# Altium schematic symbol library Generic Module.SchLib: 8 symbols
Pins are listed as number, name and electrical type; pins without a type are passive.

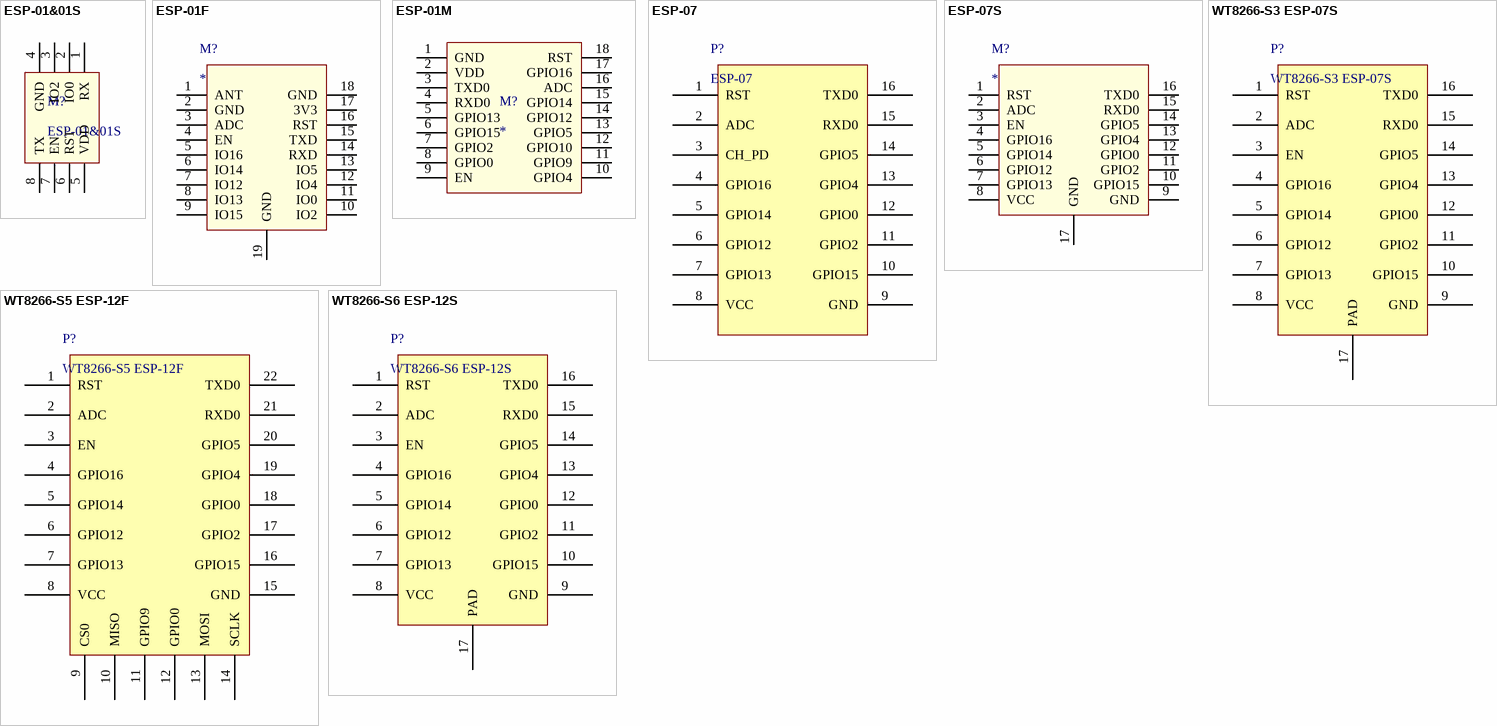
[diagram p0: symbols ESP-01&01S to WT8266-S6 ESP-12S]

## ESP-01&01S
designator M?
Module
footprint ESP-01&01S Module
pins: 1 RX, 2 IO0, 3 IO2, 4 GND, 5 VDD, 6 RST, 7 EN, 8 TX

## ESP-01F
designator M?
footprint Esp-01F
pins: 1 ANT, 2 GND, 3 ADC, 4 EN, 5 IO16, 6 IO14, 7 IO12, 8 IO13, 9 IO15, 10 IO2, 11 IO0, 12 IO4, 13 IO5, 14 RXD, 15 TXD, 16 RST, 17 3V3, 18 GND, 19 GND

## ESP-01M
designator M?
footprint ESP-01M
pins: 1 GND, 2 VDD, 3 TXD0, 4 RXD0, 5 GPIO13, 6 GPIO15, 7 GPIO2, 8 GPIO0, 9 EN, 10 GPIO4, 11 GPIO9, 12 GPIO10, 13 GPIO5, 14 GPIO12, 15 GPIO14, 16 ADC, 17 GPIO16, 18 RST

## ESP-07
designator P?
Module; Manufacturer: Ai-Thinker; Price/1K: 13.84; PartNumber: ESP-07; Sku: C82894; SupplierContact: https://item.szlcsc.com/84055.html; Datasheet: https://atta.szlcsc.com/upload/public/pdf/source/20170405/1491356466633.pdf
footprint ESP8266-07
pins: 1 RST, 2 ADC, 3 CH_PD, 4 GPIO16, 5 GPIO14, 6 GPIO12, 7 GPIO13, 8 VCC, 9 GND, 10 GPIO15, 11 GPIO2, 12 GPIO0, 13 GPIO4, 14 GPIO5, 15 RXD0, 16 TXD0

## ESP-07S
designator M?
Module
footprint ESP8266-07S
pins: 1 RST, 2 ADC, 3 EN, 4 GPIO16, 5 GPIO14, 6 GPIO12, 7 GPIO13, 8 VCC, 9 GND, 10 GPIO15, 11 GPIO2, 12 GPIO0, 13 GPIO4, 14 GPIO5, 15 RXD0, 16 TXD0, 17 GND

## WT8266-S3 ESP-07S
designator P?
Module; Manufacturer: Wireless-tag; Price/1K: 9.34; PartNumber: WT8266-S3 ESP-07S; Sku: C477828; SupplierContact: https://item.szlcsc.com/484807.html; Datasheet: https://atta.szlcsc.com/upload/public/pdf/source/20200102/C477828_9079E1E4DA657B714DBA8CAAE224E17A.pdf
pins: 1 RST, 2 ADC, 3 EN, 4 GPIO16, 5 GPIO14, 6 GPIO12, 7 GPIO13, 8 VCC, 9 GND, 10 GPIO15, 11 GPIO2, 12 GPIO0, 13 GPIO4, 14 GPIO5, 15 RXD0, 16 TXD0, 17 PAD

## WT8266-S5 ESP-12F
designator P?
Module; Manufacturer: Wireless-tag; Price/1K: 9.55; PartNumber: WT8266-S5 ESP-12F; Sku: C477829; SupplierContact: https://item.szlcsc.com/484808.html; Datasheet: https://atta.szlcsc.com/upload/public/pdf/source/20200102/C477829_C0273E46BF0DD2E76CD6AB775D1C166F.pdf
footprint ESP8266-12F
pins: 1 RST, 2 ADC, 3 EN, 4 GPIO16, 5 GPIO14, 6 GPIO12, 7 GPIO13, 8 VCC, 9 CS0, 10 MISO, 11 GPIO9, 12 GPIO0, 13 MOSI, 14 SCLK, 15 GND, 16 GPIO15, 17 GPIO2, 18 GPIO0, 19 GPIO4, 20 GPIO5, 21 RXD0, 22 TXD0

## WT8266-S6 ESP-12S
designator P?
Module; Manufacturer: Wireless-tag; Price/1K: 9.55; PartNumber: WT8266-S6 ESP-12S; Sku: C477830; SupplierContact: https://item.szlcsc.com/484809.html; Datasheet: https://atta.szlcsc.com/upload/public/pdf/source/20200102/C477830_0ECDB2D8EA191782048DC96C9617E80C.pdf
footprint ESP8266-12S
pins: 1 RST, 2 ADC, 3 EN, 4 GPIO16, 5 GPIO14, 6 GPIO12, 7 GPIO13, 8 VCC, 9 GND, 10 GPIO15, 11 GPIO2, 12 GPIO0, 13 GPIO4, 14 GPIO5, 15 RXD0, 16 TXD0, 17 PAD